# EAGLE library part MUP-C711 (library Deegou-Connectors)
STANDARD SIM CARD CONNECTOR
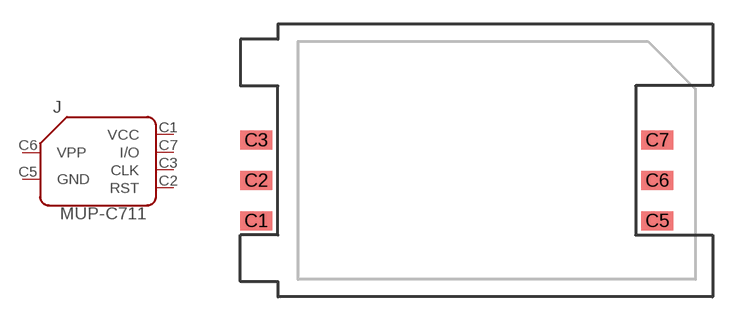
[diagram p7: symbol with the pads of STANDAR_SIM_CARD_HOLDER; footprint STANDAR_SIM_CARD_HOLDER]

Designator prefix J

## MUP-C711_STANDAR (MFR: Generic; MPN: MUP-C711)  [STANDAR_SIM_CARD_HOLDER]
C1  VCC  pwr
C2  RST  in
C3  CLK  in
C5  GND  pwr
C6  VPP  in
C7  I/O

## Footprint STANDAR_SIM_CARD_HOLDER (pad centres in mm)
smd 2 x 1.2: C1 -13.88,-3.81; C2 -13.88,-1.27; C3 -13.88,1.27; C5 11.34,-3.81; C6 11.34,-1.27; C7 11.34,1.27